# Altium footprint library Molex SL.PcbLib: 2 footprints
Each footprint in its own frame and in the unit in brackets; x right, y up, seen from the top. Pads: shape width x height; smd on the part's side, far side on the other; paste and mask are expansions set on the pad; w line width, h text height; cw(c..) or ccw(c..) is an arc to the next point about the centre after c.
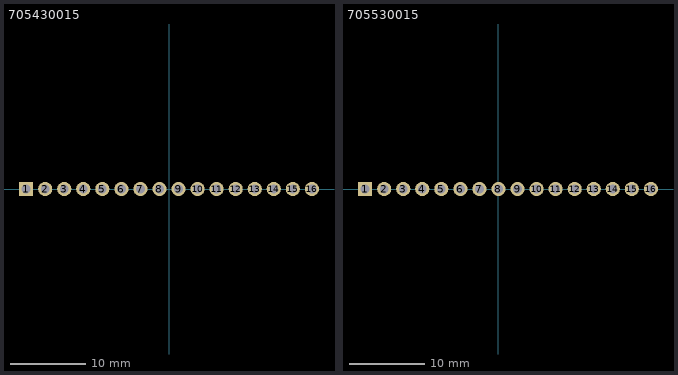
[diagram p0: the footprints below, top view; thin cyan lines are the x and y axes]

## 705430015 [mm] "Molex SL 1x16"
pads (16):
  rect 1.9x1.9 hole 1.17: 1(-19.05,0)
  round 1.9 hole 1.17: 2(-16.51,0) 3(-13.97,0) 4(-11.43,0) 5(-8.89,0) 6(-6.35,0) 7(-3.81,0) 8(-1.27,0) 9(1.27,0) 10(3.81,0) 11(6.35,0) 12(8.89,0) 13(11.43,0) 14(13.97,0) 15(16.51,0) 16(19.05,0)
3D body "705430015.stp": height 12.01, standoff -3.1, extent -21.59,-2.54 21.59,4.064

## 705530015 [mm] "Molex SL RA 1x16"
pads (16):
  rect 1.9x1.9 hole 1.17: 1(-17.78,0)
  round 1.9 hole 1.17: 2(-15.24,0) 3(-12.7,0) 4(-10.16,0) 5(-7.62,0) 6(-5.08,0) 7(-2.54,0) 8(0,0) 9(2.54,0) 10(5.08,0) 11(7.62,0) 12(10.16,0) 13(12.7,0) 14(15.24,0) 15(17.78,0) 16(20.32,0)
3D body "705530015.stp": height 7.26, standoff -3.02, extent -20.32,-12.935 22.86,0.654